# Altium footprint library S1BB.PcbLib: 1 footprints
Each footprint in its own frame and in the unit in brackets; x right, y up, seen from the top. Pads: shape width x height; smd on the part's side, far side on the other; paste and mask are expansions set on the pad; w line width, h text height; cw(c..) or ccw(c..) is an arc to the next point about the centre after c.
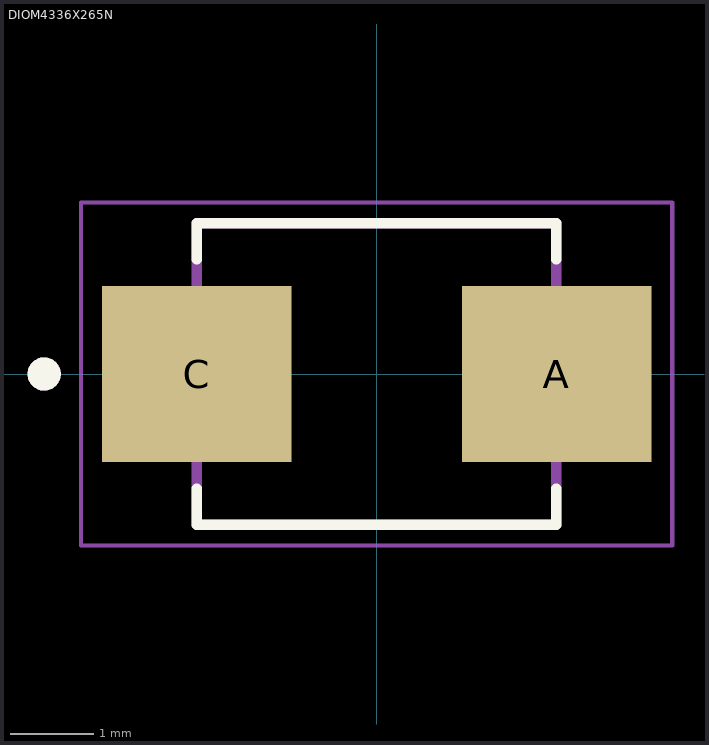
[diagram p0: the footprint, top view; thin cyan lines are the x and y axes]

## DIOM4336X265N [mm]
pads (2):
  rect 2.28x2.12 smd: A(2.165,0) C(-2.165,0)
Top Overlay:
  circle w0.2: c-4,0 r0.1
  lines w0.127: -2.163,-1.38 -2.163,-1.813 2.163,-1.813 2.163,-1.38 ; -2.163,1.38 -2.163,1.813 2.163,1.813 2.163,1.38
Mechanical 13:
  circle w0.2: c-4,0 r0.1
  lines w0.127: -2.163,-1.813 2.163,-1.813 2.163,1.813 -2.163,1.813 -2.163,-1.813
Mechanical 15:
  lines w0.05: -3.555,-2.063 3.555,-2.063 3.555,2.063 -3.555,2.063 -3.555,-2.063
3D body "step_temp.STEP": height 2.65, standoff 0, extent -2.67,-1.813 2.67,1.813